# Altium footprint library WE-MCA.PcbLib: 19 footprints (part 2 of 2)
Each footprint in its own frame and in the unit in brackets; x right, y up, seen from the top. Pads: shape width x height; smd on the part's side, far side on the other; paste and mask are expansions set on the pad; w line width, h text height; cw(c..) or ccw(c..) is an arc to the next point about the centre after c.
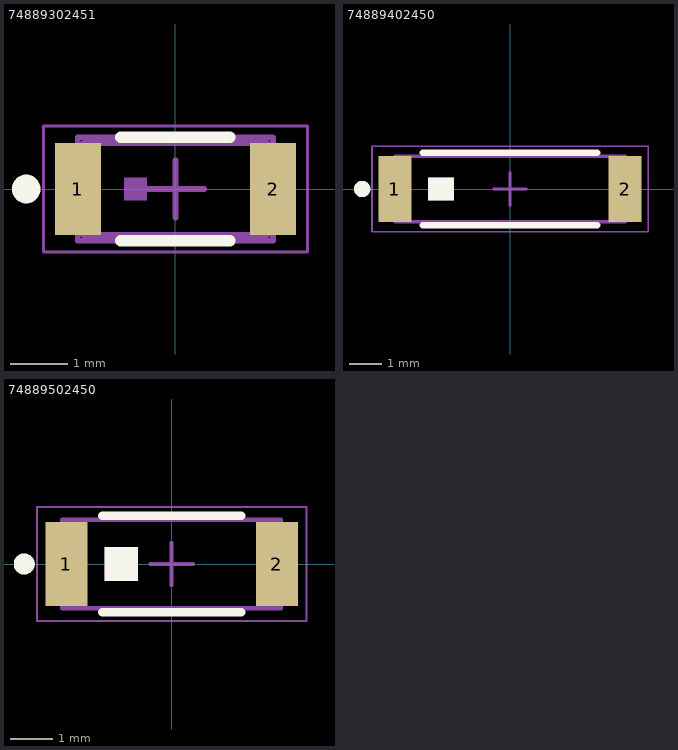
[diagram p1: the footprints below, top view; thin cyan lines are the x and y axes]

## 74889302451 [mm] "Multilayer Chip Antenna"
height 1.1
pads (2):
  rect 0.8x1.6 smd: 1(-1.7,0) 2(1.7,0)
Top Overlay:
  circle w0.25: c-2.6,0 r0.125
  lines w0.2: -0.95,-0.9 0.95,-0.9 ; -0.95,0.9 0.95,0.9
Top Assembly:
  rectangle: -0.9,-0.2 -0.5,0.2
  lines w0.1: -1.7,-0.9 -1.7,0.9 1.7,0.9 1.7,-0.9 -1.7,-0.9
Top Designator:
  text ".Designator" at -3.647,-0.357 h1
Top 3D Body:
  rectangle: -0.9,-0.2 -0.5,0.2
  lines w0.1: -1.6,-0.8 1.6,-0.8 1.6,0.8 -1.6,0.8 -1.6,-0.8
Top Courtyard:
  lines w0.05: -2.3,-1.1 -2.3,1.1 2.3,1.1 2.3,-1.1 -2.3,-1.1
Top Component Center:
  lines w0.1: -0.5,0 0.5,0 ; 0,-0.5 0,0.5
3D body "74889302451.stp": height 1.1, standoff 0, extent -1.6,-0.8 1.6,0.8

## 74889402450 [mm] "SMT-Multilayer Chip Antenna, body 7x2mm"
height 1
pads (2):
  rect 1x2 smd: 1(-3.5,0) 2(3.5,0)
Top Overlay:
  circle w0.25: c-4.5,0 r0.125
  rectangle: -2.5,-0.35 -1.7,0.35
  lines w0.2: -2.65,-1.1 2.65,-1.1 ; -2.65,1.1 2.65,1.1
Top Assembly:
  rectangle: -2.5,-0.35 -1.7,0.35
  lines w0.1: -3.5,-1 3.5,-1 3.5,1 -3.5,1 -3.5,-1
Top Designator:
  text ".Designator" at -3.647,-0.357 h1
Top 3D Body:
  rectangle: -2.5,-0.35 -1.7,0.35
  lines w0.1: -3.5,-1 -3.5,1 3.5,1 3.5,-1 -3.5,-1
Top Courtyard:
  lines w0.05: -4.2,-1.3 4.2,-1.3 4.2,1.3 -4.2,1.3 -4.2,-1.3
Top Component Center:
  lines w0.1: -0.5,0 0.5,0 ; 0,-0.5 0,0.5
3D body "74889402450.stp": height 1, standoff 0, extent -3.5,-1 3.5,1

## 74889502450 [mm] "SMT-Multilayer Chip Antenna, body 5.2x2.1mm"
height 1
pads (2):
  rect 1x2 smd: 1(-2.5,0) 2(2.5,0)
Top Overlay:
  circle w0.25: c-3.5,0 r0.125
  rectangle: -1.6,-0.4 -0.8,0.4
  lines w0.2: -1.65,-1.15 1.65,-1.15 ; -1.65,1.15 1.65,1.15
Top Assembly:
  rectangle: -1.6,-0.4 -0.8,0.4
  lines w0.1: -2.6,-1.05 -2.6,1.05 2.6,1.05 2.6,-1.05 -2.6,-1.05
Top Designator:
  text ".Designator" at -3.647,-0.357 h1
Top 3D Body:
  rectangle: -1.6,-0.4 -0.8,0.4
  lines w0.1: -2.6,-1.05 2.6,-1.05 2.6,1.05 -2.6,1.05 -2.6,-1.05
Top Courtyard:
  lines w0.05: -3.2,-1.35 -3.2,1.35 3.2,1.35 3.2,-1.35 -3.2,-1.35
Top Component Center:
  lines w0.1: -0.5,0 0.5,0 ; 0,-0.5 0,0.5
3D body "74889502450.stp": height 1, standoff 0, extent -2.6,-1.05 2.6,1.05